# EAGLE library part M12X2 (library PaxInstruments-Connectors)
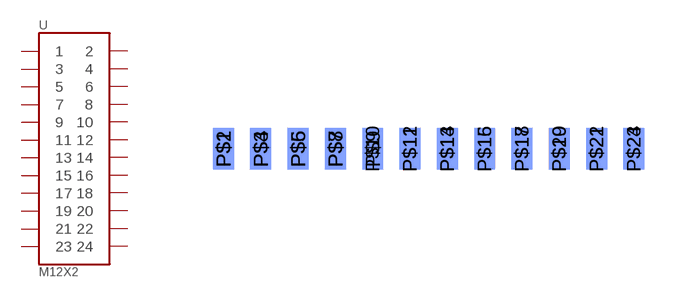
[diagram p4: symbol with the pads of M12X2_1.27MM_EDGE; footprint M12X2_1.27MM_EDGE]

Designator prefix -

## M12X2_EDGE_1.27MM  [M12X2_1.27MM_EDGE]
P$1  1
P$2  2
P$3  3
P$4  4
P$5  5
P$6  6
P$7  7
P$8  8
P$9  9
P$10  10
P$11  11
P$12  12
P$13  13
P$14  14
P$15  15
P$16  16
P$17  17
P$18  18
P$19  19
P$20  20
P$21  21
P$22  22
P$23  23
P$24  24

## Footprint M12X2_1.27MM_EDGE (pad centres in mm)
smd 0.711 x 1.422: P$1 0,-1.016; P$3 1.27,-1.016; P$5 2.54,-1.016; P$7 3.81,-1.016; P$9 5.08,-1.016; P$11 6.35,-1.016; P$13 7.62,-1.016; P$15 8.89,-1.016; P$17 10.16,-1.016; P$19 11.43,-1.016; P$21 12.7,-1.016; P$23 13.97,-1.016
smd 0.711 x 1.422 bottom: P$2 0,-1.016; P$4 1.27,-1.016; P$6 2.54,-1.016; P$8 3.81,-1.016; P$10 5.08,-1.016; P$12 6.35,-1.016; P$14 7.62,-1.016; P$16 8.89,-1.016; P$18 10.16,-1.016; P$20 11.43,-1.016; P$22 12.7,-1.016; P$24 13.97,-1.016